# Altium footprint library RT1064 核心板封装库.PcbLib: 1 footprints
Each footprint in its own frame and in the unit in brackets; x right, y up, seen from the top. Pads: shape width x height; smd on the part's side, far side on the other; paste and mask are expansions set on the pad; w line width, h text height; cw(c..) or ccw(c..) is an arc to the next point about the centre after c.
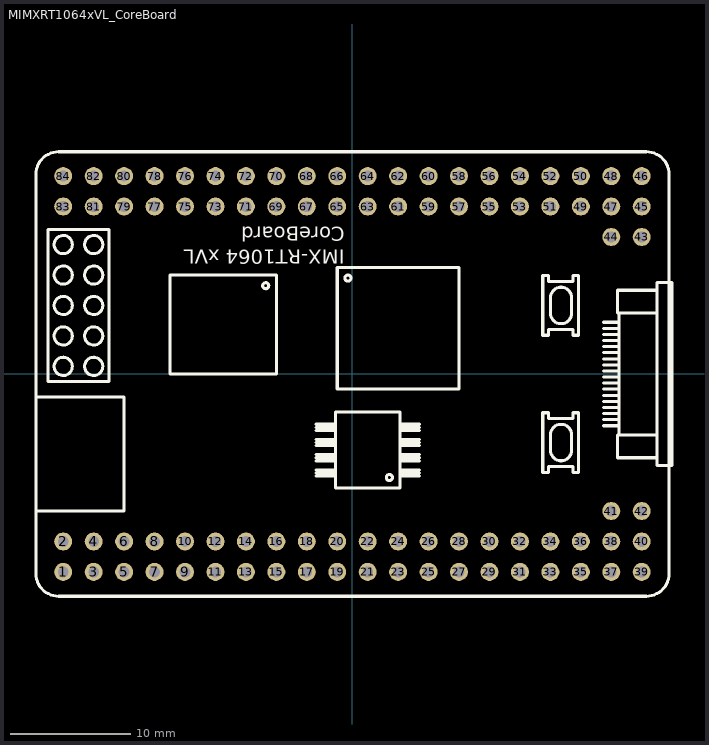
[diagram p0: the footprint, top view; thin cyan lines are the x and y axes]

## MIMXRT1064xVL_CoreBoard [mm] "逐飞科技i.MX RT1064核心板整体封装，可直接使用"
pads (84):
  round 1.5 hole 0.9: 1(-24.13,-16.51) 2(-24.13,-13.97) 3(-21.59,-16.51) 4(-21.59,-13.97) 5(-19.05,-16.51) 6(-19.05,-13.97) 7(-16.51,-16.51) 8(-16.51,-13.97) 9(-13.97,-16.51) 10(-13.97,-13.97) 11(-11.43,-16.51) 12(-11.43,-13.97) 13(-8.89,-16.51) 14(-8.89,-13.97) 15(-6.35,-16.51) 16(-6.35,-13.97) 17(-3.81,-16.51) 18(-3.81,-13.97) 19(-1.27,-16.51) 20(-1.27,-13.97) 21(1.27,-16.51) 22(1.27,-13.97) 23(3.81,-16.51) 24(3.81,-13.97) 25(6.35,-16.51) 26(6.35,-13.97) 27(8.89,-16.51) 28(8.89,-13.97) 29(11.43,-16.51) 30(11.43,-13.97) 31(13.97,-16.51) 32(13.97,-13.97) 33(16.51,-16.51) 34(16.51,-13.97) 35(19.05,-16.51) 36(19.05,-13.97) 37(21.59,-16.51) 38(21.59,-13.97) 39(24.13,-16.51) 40(24.13,-13.97) 41(21.59,-11.43) 42(24.13,-11.43) 43(24.13,11.43) 44(21.59,11.43) 45(24.13,13.97) 46(24.13,16.51) 47(21.59,13.97) 48(21.59,16.51) 49(19.05,13.97) 50(19.05,16.51) 51(16.51,13.97) 52(16.51,16.51) 53(13.97,13.97) 54(13.97,16.51) 55(11.43,13.97) 56(11.43,16.51) 57(8.89,13.97) 58(8.89,16.51) 59(6.35,13.97) 60(6.35,16.51) 61(3.81,13.97) 62(3.81,16.51) 63(1.27,13.97) 64(1.27,16.51) 65(-1.27,13.97) 66(-1.27,16.51) 67(-3.81,13.97) 68(-3.81,16.51) 69(-6.35,13.97) 70(-6.35,16.51) 71(-8.89,13.97) 72(-8.89,16.51) 73(-11.43,13.97) 74(-11.43,16.51) 75(-13.97,13.97) 76(-13.97,16.51) 77(-16.51,13.97) 78(-16.51,16.51) 79(-19.05,13.97) 80(-19.05,16.51) 81(-21.59,13.97) 82(-21.59,16.51) 83(-24.13,13.97) 84(-24.13,16.51)
Top Overlay:
  circle w0.254: c3.081,-8.636 r0.254
  circle w0.254: c-7.239,7.366 r0.254
  circle w0.254: c-0.381,8.001 r0.254
  circle w0.254: c-24.13,5.715 r0.762
  circle w0.254: c-24.13,8.255 r0.762
  circle w0.254: c-21.59,8.255 r0.762
  circle w0.254: c-21.59,5.715 r0.762
  circle w0.254: c-24.13,3.175 r0.762
  circle w0.254: c-21.59,3.175 r0.762
  circle w0.254: c-24.13,10.795 r0.762
  circle w0.254: c-21.59,10.795 r0.762
  circle w0.254: c-24.13,0.635 r0.762
  circle w0.254: c-21.59,0.635 r0.762
  lines w0.254: -26.416,-11.43 -19.05,-11.43 -19.05,-1.905 -26.416,-1.905 ; -3.048,-8.509 -1.43,-8.509 ; -3.048,-8.255 -1.43,-8.255 ; -3.048,-8.001 -1.43,-8.001 ; -3.048,-7.239 -1.43,-7.239 ; -3.048,-6.985 -1.43,-6.985 ; -3.048,-6.731 -1.43,-6.731 ; -3.048,-5.969 -1.43,-5.969 ; -3.048,-5.715 -1.43,-5.715 ; -3.048,-5.461 -1.43,-5.461 ; -3.048,-4.699 -1.43,-4.699 ; -3.048,-4.445 -1.43,-4.445 ; -3.048,-4.191 -1.43,-4.191 ; 3.97,-8.509 5.588,-8.509 ; 3.97,-8.255 5.588,-8.255 ; 3.97,-8.001 5.588,-8.001 ; 3.97,-7.239 5.588,-7.239 ; 3.97,-6.985 5.588,-6.985 ; 3.97,-6.731 5.588,-6.731 ; 3.97,-5.969 5.588,-5.969 ; 3.97,-5.715 5.588,-5.715 ; 3.97,-5.461 5.588,-5.461 ; 3.97,-4.699 5.588,-4.699 ; 3.97,-4.445 5.588,-4.445 ; 3.97,-4.191 5.588,-4.191 ; 20.955,-4.318 22.225,-4.318 ; 20.955,-3.81 22.225,-3.81 ; 20.955,-3.302 22.225,-3.302 ; 20.955,-2.794 22.225,-2.794 ; 20.955,-2.286 22.225,-2.286 ; 20.955,-1.778 22.225,-1.778 ; 20.955,-1.27 22.225,-1.27 ; 20.955,-0.762 22.225,-0.762 ; 20.955,-0.254 22.225,-0.254 ; 20.955,0.254 22.225,0.254 ; 20.955,0.762 22.225,0.762 ; 20.955,1.27 22.225,1.27 ; 20.955,1.778 22.225,1.778 ; 20.955,2.286 22.225,2.286 ; 20.955,2.794 22.225,2.794 ; 20.955,3.302 22.225,3.302 ; 20.955,3.81 22.225,3.81 ; 20.955,4.318 22.225,4.318 ; 22.225,-5.08 22.225,5.08 ; 25.4,-6.985 22.098,-6.985 22.098,-5.08 25.4,-5.08 ; 25.4,5.08 22.098,5.08 22.098,6.985 25.4,6.985 ; -26.416,-16.637 ccw(c-24.511,-16.637) -24.511,-18.542 24.511,-18.542 ccw(c24.511,-16.637) 26.416,-16.637 26.416,16.637 ccw(c24.511,16.637) 24.511,18.542 -24.511,18.542 ccw(c-24.511,16.637) -26.416,16.637 -26.416,-16.637 ; -25.4,-0.635 -25.4,12.065 -20.32,12.065 -20.32,-0.635 -25.4,-0.635 ; -15.24,0 -15.24,8.255 -6.35,8.255 -6.35,0 -15.24,0 ; -1.43,-9.525 3.97,-9.525 3.97,-3.175 -1.43,-3.175 -1.43,-9.525 ; -1.27,-1.27 8.89,-1.27 8.89,8.89 -1.27,8.89 -1.27,-1.27 ; 15.872,-8.199 16.356,-8.199 16.356,-7.715 18.388,-7.715 18.388,-8.199 18.872,-8.199 18.872,-7.715 18.872,-3.715 18.872,-3.231 18.388,-3.231 18.388,-3.715 16.356,-3.715 16.356,-3.231 15.872,-3.231 15.872,-3.715 15.872,-7.715 15.872,-8.199 ; 15.872,3.231 15.872,3.715 15.872,7.715 15.872,8.199 16.356,8.199 16.356,7.715 18.388,7.715 18.388,8.199 18.872,8.199 18.872,7.715 18.872,3.715 18.872,3.231 18.388,3.231 18.388,3.715 16.356,3.715 16.356,3.231 15.872,3.231 ; 16.51,-6.35 ccw(c17.399,-6.35) 18.288,-6.35 18.288,-5.08 ccw(c17.399,-5.08) 16.51,-5.08 16.51,-6.35 ; 16.51,5.08 ccw(c17.399,5.08) 18.288,5.08 18.288,6.35 ccw(c17.399,6.35) 16.51,6.35 16.51,5.08 ; 25.4,-7.62 25.4,7.62 26.67,7.62 26.67,-7.62 25.4,-7.62
  text "IMX-RT1064 xVL" at -0.635,10.795 h2.03
  text "CoreBoard" at -0.635,12.7 h2.03